# EAGLE library part NCP380_TSOP-6 (library DSDEagleLibrary)
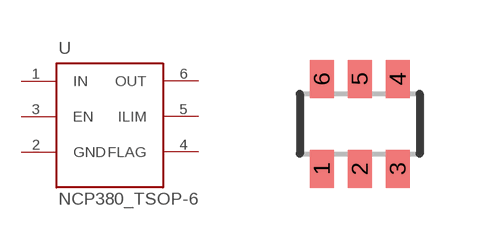
[diagram p7: symbol with the pads of TSOP-6; footprint TSOP-6]

Designator prefix U

## NCP380_TSOP-6  [TSOP-6]
1  IN
2  GND
3  EN
4  FLAG
5  ILIM
6  OUT

## Footprint TSOP-6 (pad centres in mm)
smd 0.6 x 0.95: 1 -0.95,-1.125; 2 0,-1.125; 3 0.95,-1.125; 4 0.95,1.125; 5 0,1.125; 6 -0.95,1.125